# Altium footprint library CAPPR7.5-16.PcbLib: 1 footprints
Each footprint in its own frame and in the unit in brackets; x right, y up, seen from the top. Pads: shape width x height; smd on the part's side, far side on the other; paste and mask are expansions set on the pad; w line width, h text height; cw(c..) or ccw(c..) is an arc to the next point about the centre after c.
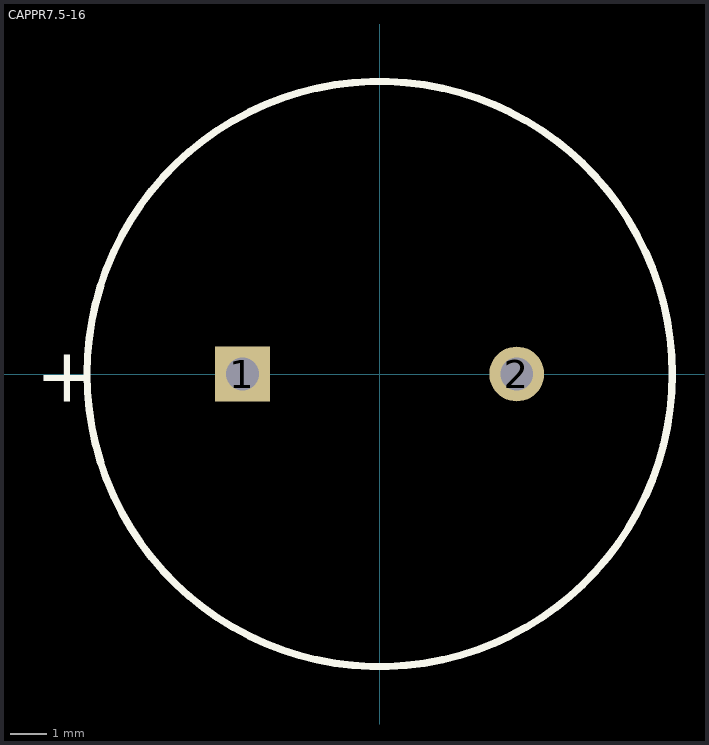
[diagram p0: the footprint, top view; thin cyan lines are the x and y axes]

## CAPPR7.5-16 [mm]
pads (2):
  rect 1.5x1.5 hole 0.9: 1(-3.75,0)
  round 1.5 hole 0.9: 2(3.75,0)
Top Overlay:
  circle w0.2: c0,0 r8
  text "+" at -9.398,-0.762 h1.5
3D body: height 24.99, standoff 0, extent -7.938,-7.985 8.001,7.985